# Altium footprint library PcbLib1.PcbLib: 20 footprints (part 1 of 2)
Each footprint in its own frame and in the unit in brackets; x right, y up, seen from the top. Pads: shape width x height; smd on the part's side, far side on the other; paste and mask are expansions set on the pad; w line width, h text height; cw(c..) or ccw(c..) is an arc to the next point about the centre after c.
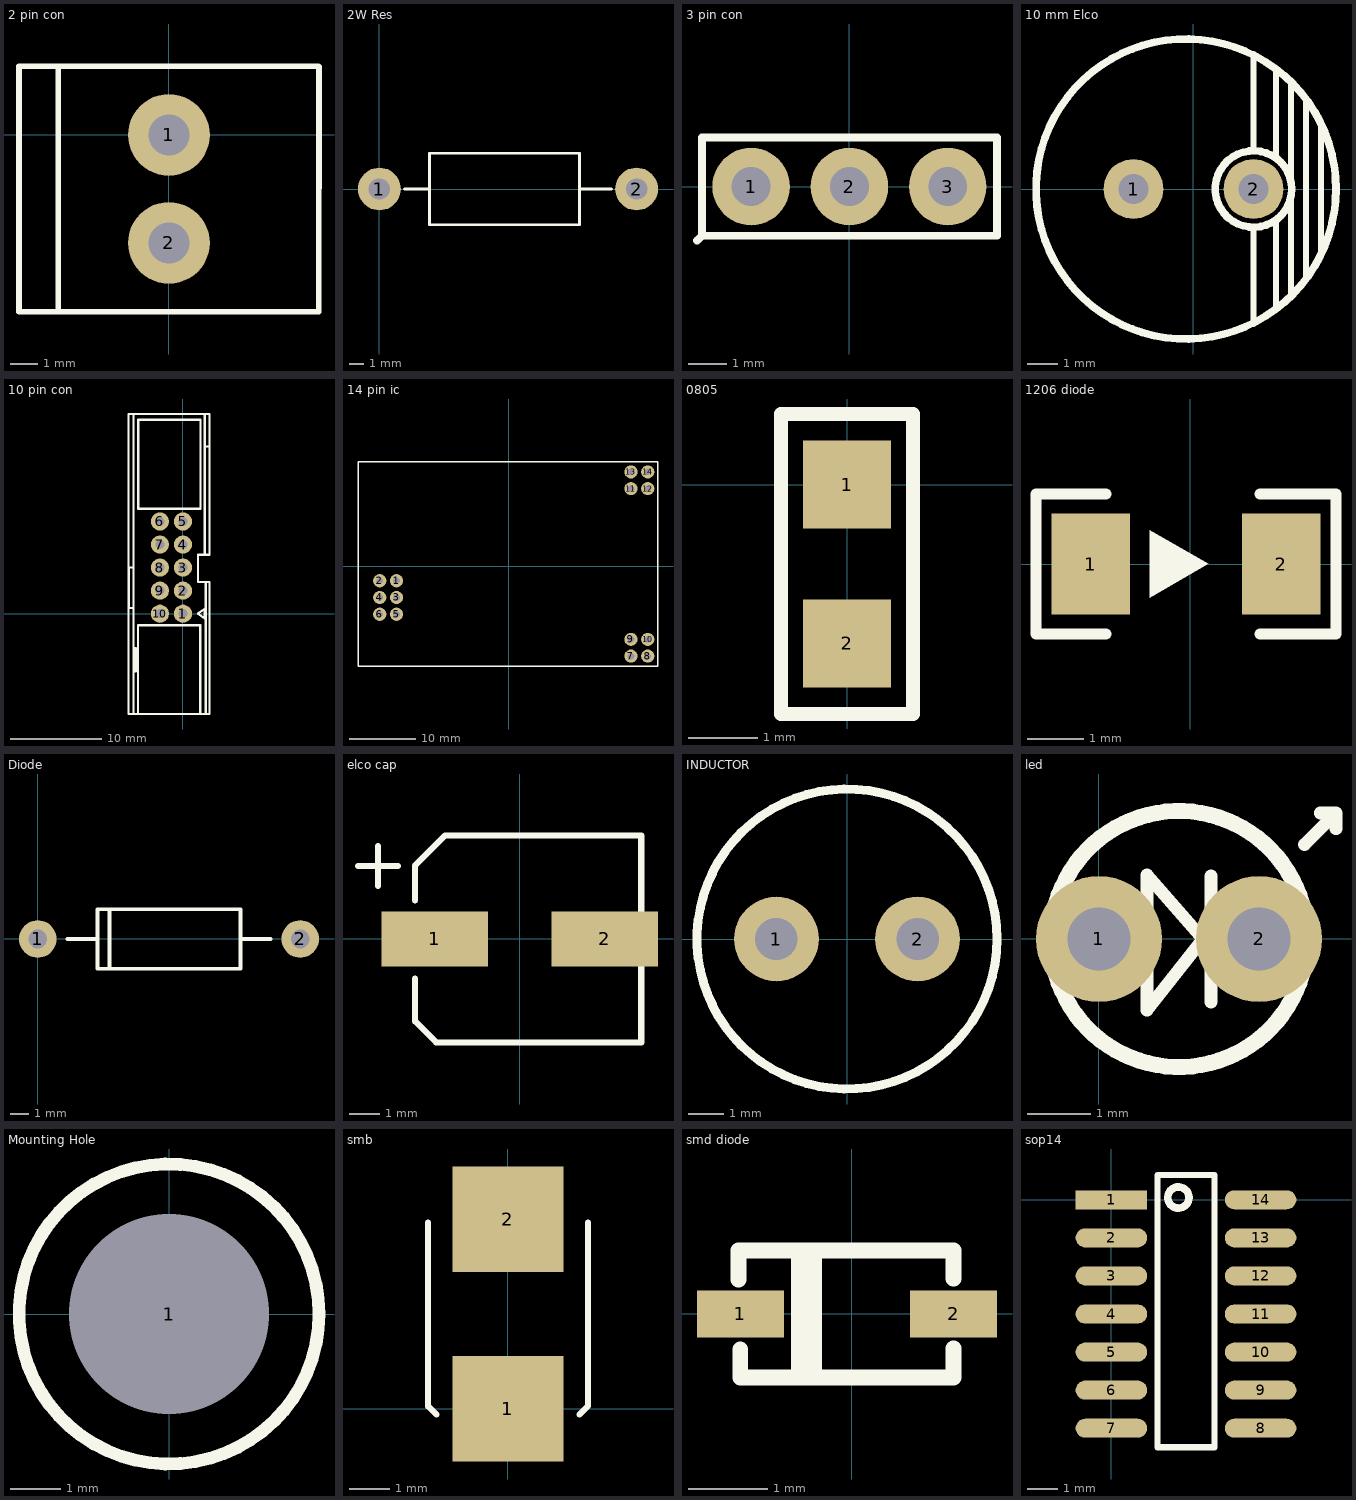
[diagram p0: the footprints below, top view; thin cyan lines are the x and y axes]

## 2 pin con [mm]
pads (2):
  round 3 hole 1.5 unplated: 1(0,0) 2(0,-3.96)
Top Overlay:
  lines w0.203: -4.064,-6.481 -4.064,2.521 ; -5.497,-6.491 -5.497,-6.461 -5.497,2.521 5.486,2.521 5.507,2.501 5.497,-6.481 -5.497,-6.491

## 2W Res [mm]
pads (2):
  round 3 hole 1.5: 1(0,0) 2(18,0)
Top Overlay:
  lines w0.2: 1.75,0 3.5,0 ; 14,0 16.25,0 ; 3.5,0 3.5,-2.5 14,-2.5 14,2.5 3.5,2.5 3.5,0

## 3 pin con [mm]
pads (3):
  round 2 hole 1 unplated: 1(-2.54,0) 2(0,0) 3(2.54,0)
Top Overlay:
  lines w0.203: -3.937,-1.397 -3.81,-1.27 ; -3.81,-1.27 -3.81,1.27 3.81,1.27 3.81,-1.27 -3.81,-1.27

## 10 mm Elco [mm]
pads (2):
  round 2 hole 1: 1(-2,0) 2(2,0)
Top Overlay:
  circle w0.254: c-0.25,0 r5
  circle w0.254: c2,0 r1.275
  lines w0.2: 2,-4.5 2,-1.25 ; 2,1.25 2,4.5 ; 2.75,-4 2.75,-1 ; 2.75,1 2.75,4 ; 3.25,-3.5 3.25,3.5 ; 3.75,-3 3.75,3 ; 4.25,-2.25 4.25,2.25

## 10 pin con [mm]
pads (10):
  round 2 hole 1 unplated: 1(0,0) 2(0,2.54) 3(0,5.08) 4(0,7.62) 5(0,10.16) 6(-2.54,10.16) 7(-2.54,7.62) 8(-2.54,5.08) 9(-2.54,2.54) 10(-2.54,0)
Top Overlay:
  lines w0.25: 1.651,3.5 2.921,3.5
  lines w0.254: -5.969,-11.049 2.921,-11.049 ; -5.461,21.819 -5.461,-11.049 -6,-11.049 -6,22 2.921,22 2.921,6.5 1.651,6.5 1.651,3.5 ; 2.413,6.5 2.413,22 ; 2.413,18.415 2.921,18.415 ; 2.5,3.5 2.5,-11.049 2.921,-11.049 ; 2.921,3.5 2.921,-11.049 ; -5.969,0.635 -5.461,0.635 -5.461,5.08 -5.969,5.08 -5.969,0.635 ; -5.334,-6.35 -5.207,-6.35 -5.207,-3.81 -5.334,-3.81 -5.334,-6.35 ; -4.953,-11.049 1.905,-11.049 1.905,-1.27 -4.953,-1.27 -4.953,-11.049 ; -4.917,11.576 1.941,11.576 1.941,21.355 -4.917,21.355 -4.917,11.576 ; 1.651,0 2.413,-0.508 2.413,0.508 1.651,0

## 14 pin ic [mm]
pads (14):
  round 2 hole 1: 1(-17.01,-2.196) 2(-19.55,-2.196) 3(-17.01,-4.736) 4(-19.55,-4.736) 5(-17.01,-7.276) 6(-19.55,-7.276) 7(18.55,-13.626) 8(21.09,-13.626) 9(18.55,-11.086) 10(21.09,-11.086) 11(18.55,11.774) 12(21.09,11.774) 13(18.55,14.314) 14(21.09,14.314)
Top Overlay:
  lines w0.2: -22.85,-15.156 22.646,-15.156 22.646,15.844 -22.85,15.844 -22.85,-15.156

## 0805 [mil]
pads (2):
  rect 50x50 smd paste+0 mask+4: 1(0,0) 2(0,-90)
Top Overlay:
  lines w7.87: -37.48,-130 37.48,-130 37.48,40 -37.48,40 -37.48,-130

## 1206 diode [mm]
pads (2):
  rect 1.4x1.8 smd paste+0 mask+0.102: 1(-1.778,0) 2(1.622,0)
Top Overlay:
  region: -0.72,-0.599 0.324,0.003 -0.72,0.606
  lines w0.2: -1.5,-1.25 -2.75,-1.25 -2.75,-0.75 -2.75,1.25 -1.5,1.25 ; 1.25,-1.25 2.6,-1.25 2.6,1.25 1.25,1.25

## Diode [mm]
pads (2):
  round 2 hole 1 unplated: 1(0,0) 2(13.97,0)
Top Overlay:
  lines w0.203: 1.588,0 3.176,0 ; 3.81,-1.588 3.81,1.588 ; 10.795,0 12.382,0 ; 3.175,-1.587 3.176,1.588 10.795,1.587 10.795,-1.588 3.175,-1.587

## elco cap [mm]
pads (2):
  rect 3.5x1.8 smd: 1(-2.8,0) 2(2.8,0)
Top Overlay:
  lines w0.203: -5.32,2.403 -4.014,2.403 ; -4.667,1.75 -4.667,3.056 ; -3.45,1.27 -3.45,2.41 -2.46,3.4 4,3.4 4,-3.4 -2.75,-3.4 -3.44,-2.71 -3.44,-1.31

## INDUCTOR [mm]
pads (2):
  round 2.4 hole 1.2: 1(-2,0) 2(2,0)
Top Overlay:
  circle w0.254: c0,0 r4.25

## led [mm]
pads (2):
  round 2 hole 1 unplated: 1(0,0) 2(2.54,0)
Top Overlay:
  lines w0.2: 0,0 0.762,0 ; 1.778,-1 1.778,1 ; 1.905,0 2.54,0 ; 3.262,1.5 3.762,2 ; 3.512,2 3.762,2 ; 3.762,1.75 3.762,2 ; 0.762,-1.129 1.651,0 0.762,1.016 0.762,-1.129
  lines w0.254: -0.762,0 -0.757,0.142 -0.742,0.283 -0.718,0.422 -0.683,0.56 -0.639,0.695 -0.586,0.826 -0.524,0.954 -0.453,1.077 -0.374,1.194 -0.287,1.306 -0.192,1.412 -0.09,1.51 0.019,1.601 0.134,1.685 0.254,1.76 0.379,1.826 0.509,1.884 0.642,1.933 0.778,1.972 0.917,2.001 1.058,2.021 1.199,2.031 1.341,2.031 1.482,2.021 1.623,2.001 1.762,1.972 1.898,1.933 2.031,1.884 2.161,1.826 2.286,1.76 2.406,1.685 2.521,1.601 2.63,1.51 2.732,1.412 2.827,1.306 2.914,1.194 2.993,1.077 3.064,0.954 3.126,0.826 3.179,0.695 3.223,0.56 3.258,0.422 3.282,0.283 3.297,0.142 3.302,0 3.297,-0.142 3.282,-0.283 3.258,-0.422 3.223,-0.56 3.179,-0.695 3.126,-0.826 3.064,-0.954 2.993,-1.077 2.914,-1.194 2.827,-1.306 2.732,-1.412 2.63,-1.51 2.521,-1.601 2.406,-1.685 2.286,-1.76 2.161,-1.826 2.031,-1.884 1.898,-1.933 1.762,-1.972 1.623,-2.001 1.482,-2.021 1.341,-2.031 1.199,-2.031 1.058,-2.021 0.917,-2.001 0.778,-1.972 0.642,-1.933 0.509,-1.884 0.379,-1.826 0.254,-1.76 0.134,-1.685 0.019,-1.601 -0.09,-1.51 -0.192,-1.412 -0.287,-1.306 -0.374,-1.194 -0.453,-1.077 -0.524,-0.954 -0.586,-0.826 -0.639,-0.695 -0.683,-0.56 -0.718,-0.422 -0.742,-0.283 -0.757,-0.142 -0.762,0

## Mounting Hole [mm]
pads (1):
  round 2 hole 4 unplated: 1(0,0)
Top Overlay:
  circle w0.254: c0,0 r3

## smb [mil]
pads (2):
  rect 107.99x102.99 smd: 1(0,0) 2(0,185)
Top Overlay:
  lines w5.98: -77.99,182.01 -77.99,2.01 -77.48,2.01 -70,-5.51 ; 70,-5.51 77.99,2.52 77.99,182.01

## smd diode [mm]
pads (2):
  rect 1.1x0.599 smd: 1(-1.409,0) 2(1.291,0)
Top Overlay:
  lines w0.2: -1.432,0.437 -1.432,0.803 1.291,0.803 1.291,0.447 ; -1.412,-0.447 -1.412,-0.803 1.291,-0.803 1.291,-0.437 ; -0.67,-0.762 -0.67,0.742 ; -0.477,-0.762 -0.477,0.742

## sop14 [mm]
pads (14):
  rect 2.388x0.635 smd paste+0: 1(0,0)
  oval 2.388x0.635 smd paste+0: 2(0,-1.27) 3(0,-2.54) 4(0,-3.81) 5(0,-5.08) 6(0,-6.35) 7(0,-7.62) 8(4.978,-7.62) 9(4.978,-6.35) 10(4.978,-5.08) 11(4.978,-3.81) 12(4.978,-2.54) 13(4.978,-1.27) 14(4.978,0)
Top Overlay:
  circle w0.254: c2.235,0.075 r0.354
  lines w0.203: 1.536,-8.255 3.442,-8.255 3.442,0.825 1.536,0.825 1.536,-8.255